# EAGLE library part FXAS21002 (library sharkdunio)
FXAS21002 I2C/SPI low power gyro
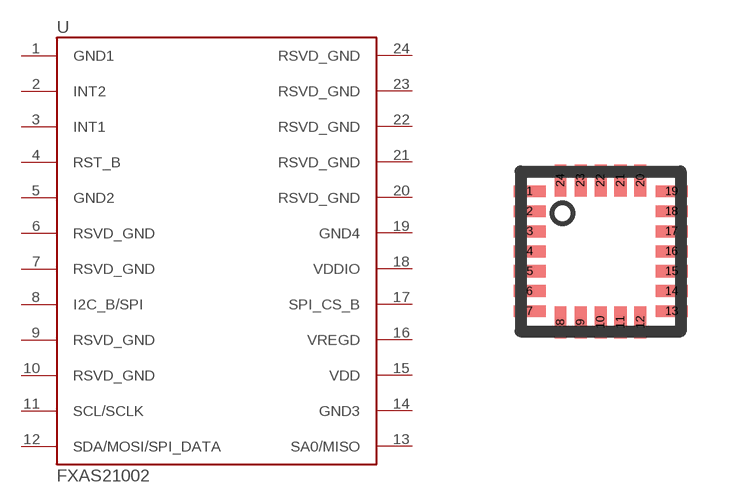
[diagram p1: symbol with the pads of 24QFN; footprint 24QFN]

Designator prefix -

## FXAS21002  [24QFN]
1  GND1
2  INT2
3  INT1
4  RST_B
5  GND2
6  RSVD_GND
7  RSVD_GND
8  I2C_B/SPI
9  RSVD_GND
10  RSVD_GND
11  SCL/SCLK
12  SDA/MOSI/SPI_DATA
13  SA0/MISO
14  GND3
15  VDD
16  VREGD
17  SPI_CS_B
18  VDDIO
19  GND4
20  RSVD_GND
21  RSVD_GND
22  RSVD_GND
23  RSVD_GND
24  RSVD_GND

## Footprint 24QFN (pad centres in mm)
smd 0.8 x 0.3: 1 -1.775,1.5; 2 -1.775,1; 3 -1.775,0.5; 4 -1.775,0; 5 -1.775,-0.5; 6 -1.775,-1; 7 -1.775,-1.5; 13 1.775,-1.5; 14 1.775,-1; 15 1.775,-0.5; 16 1.775,0; 17 1.775,0.5; 18 1.775,1; 19 1.775,1.5
smd 0.3 x 0.8: 8 -1,-1.775; 9 -0.5,-1.775; 10 0,-1.775; 11 0.5,-1.775; 12 1,-1.775; 20 1,1.775; 21 0.5,1.775; 22 0,1.775; 23 -0.5,1.775; 24 -1,1.775